# Altium schematic symbol library Components.SchLib: 12 symbols
Pins are listed as number, name and electrical type; pins without a type are passive.

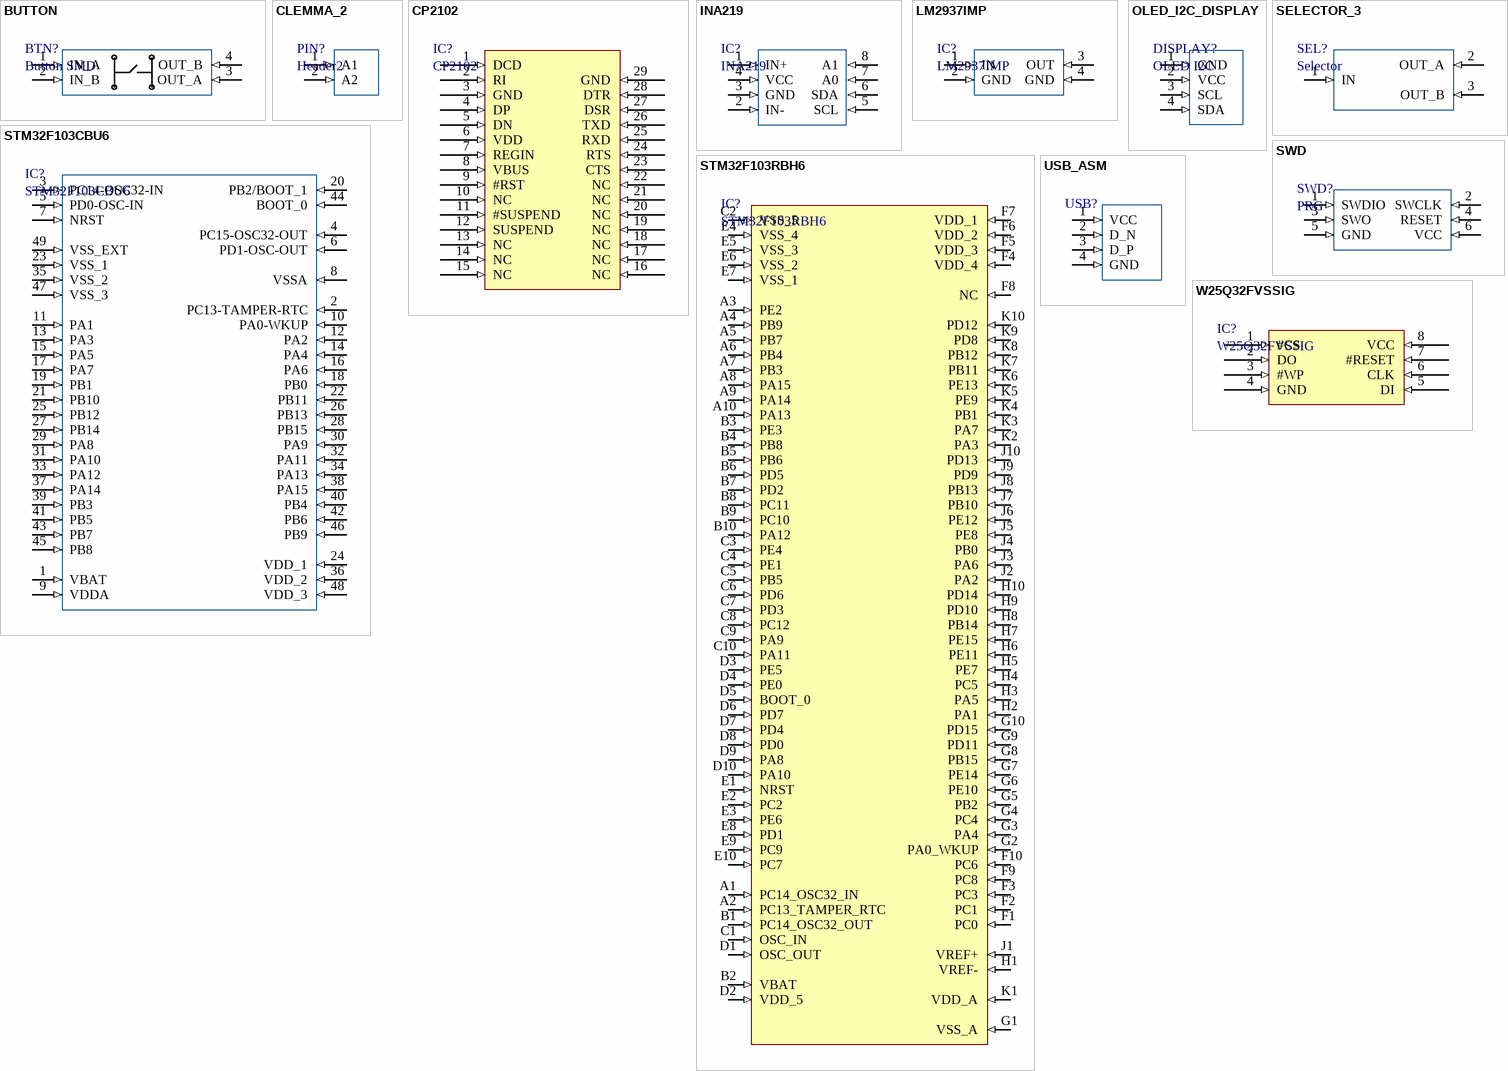
[diagram p0: symbols BUTTON to W25Q32FVSSIG]

## BUTTON
designator BTN?, comment Button SMD
Simple SMD button 4x4mm
footprint BUTTON_SMD (6x6mm 1.5mm h)
pins: 1 IN_A (in), 2 IN_B (in), 3 OUT_A (in), 4 OUT_B (in)

## CLEMMA_2
designator PIN?, comment Header2
5.0mm step, 2 pins, KLS2-102-5.00-02P-2S
footprint CLEMMA_2
pins: 1 A1 (in), 2 A2 (in)

## CP2102
designator IC?
Silabs CP2102
footprint QFN28
pins: 1 DCD (in), 2 RI (in), 3 GND (in), 4 DP (in), 5 DN (in), 6 VDD (in), 7 REGIN (in), 8 VBUS (in), 9 #RST (in), 10 NC (in), 11 #SUSPEND (in), 12 SUSPEND (in), 13 NC (in), 14 NC (in), 15 NC (in), 16 NC (in), 17 NC (in), 18 NC (in), 19 NC (in), 20 NC (in), 21 NC (in), 22 NC (in), 23 CTS (in), 24 RTS (in), 25 RXD (in), 26 TXD (in), 27 DSR (in), 28 DTR (in), 29 GND (in)

## INA219
designator IC?
INA219 Zerø-Drift, Bidirectional Current/Power Monitor With I / 2C Interface
footprint SOT23-INA219
pins: 1 IN+ (in), 2 IN- (in), 3 GND (in), 4 VCC (in), 5 SCL (in), 6 SDA (in), 7 A0 (in), 8 A1 (in)

## LM2937IMP
designator IC?
DC-DC 3.3V 0.5A
footprint SOT223
pins: 1 IN (in), 2 GND (in), 3 OUT (in), 4 GND (in)

## OLED_I2C_DISPLAY
designator DISPLAY?, comment OLED I2C
I2C Display module
footprint OLED_I2C_DISPLAY (OLED I2C)
pins: 1 GND (in), 2 VCC (in), 3 SCL (in), 4 SDA (in)

## SELECTOR_3
designator SEL?, comment Selector
Simple selector
footprint BGA100P9X9-81A
pins: 1 IN (in), 2 OUT_A (in), 3 OUT_B (in)

## STM32F103CBU6
designator IC?
STM32F103CBU6 in QFN package
footprint UFQFPN48
pins: 1 VBAT (in), 2 PC13-TAMPER-RTC (in), 3 PC14-OSC32-IN (in), 4 PC15-OSC32-OUT (in), 5 PD0-OSC-IN (in), 6 PD1-OSC-OUT (in), 7 NRST (in), 8 VSSA (in), 9 VDDA (in), 10 PA0-WKUP (in), 11 PA1 (in), 12 PA2 (in), 13 PA3 (in), 14 PA4 (in), 15 PA5 (in), 16 PA6 (in), 17 PA7 (in), 18 PB0 (in), 19 PB1 (in), 20 PB2/BOOT_1 (in), 21 PB10 (in), 22 PB11 (in), 23 VSS_1 (in), 24 VDD_1 (in), 25 PB12 (in), 26 PB13 (in), 27 PB14 (in), 28 PB15 (in), 29 PA8 (in), 30 PA9 (in), 31 PA10 (in), 32 PA11 (in), 33 PA12 (in), 34 PA13 (in), 35 VSS_2 (in), 36 VDD_2 (in), 37 PA14 (in), 38 PA15 (in), 39 PB3 (in), 40 PB4 (in), 41 PB5 (in), 42 PB6 (in), 43 PB7 (in), 44 BOOT_0 (in), 45 PB8 (in), 46 PB9 (in), 47 VSS_3 (in), 48 VDD_3 (in), 49 VSS_EXT (in)

## STM32F103RBH6
designator IC?
STM32F103RBH6 in BGA package
footprint BGA100C80P10X10_1000X1000X170 (BGA, 100-Leads, Body 10,00x10,00mmx1,70mm, Pitch 0,80mm)
pins: A1 PC14_OSC32_IN (in), A2 PC13_TAMPER_RTC (in), A3 PE2 (in), A4 PB9 (in), A5 PB7 (in), A6 PB4 (in), A7 PB3 (in), A8 PA15 (in), A9 PA14 (in), A10 PA13 (in), B1 PC14_OSC32_OUT (in), B2 VBAT (in), B3 PE3 (in), B4 PB8 (in), B5 PB6 (in), B6 PD5 (in), B7 PD2 (in), B8 PC11 (in), B9 PC10 (in), B10 PA12 (in), C1 OSC_IN (in), C2 VSS_5 (in), C3 PE4 (in), C4 PE1 (in), C5 PB5 (in), C6 PD6 (in), C7 PD3 (in), C8 PC12 (in), C9 PA9 (in), C10 PA11 (in), D1 OSC_OUT (in), D2 VDD_5 (in), D3 PE5 (in), D4 PE0 (in), D5 BOOT_0 (in), D6 PD7 (in), D7 PD4 (in), D8 PD0 (in), D9 PA8 (in), D10 PA10 (in), E1 NRST (in), E2 PC2 (in), E3 PE6 (in), E4 VSS_4 (in), E5 VSS_3 (in), E6 VSS_2 (in), E7 VSS_1 (in), E8 PD1 (in), E9 PC9 (in), E10 PC7 (in), F1 PC0 (in), F2 PC1 (in), F3 PC3 (in), F4 VDD_4 (in), F5 VDD_3 (in), F6 VDD_2 (in), F7 VDD_1 (in), F8 NC (in), F9 PC8 (in), F10 PC6 (in), G1 VSS_A (in), G2 PA0_WKUP (in), G3 PA4 (in), G4 PC4 (in), G5 PB2 (in), G6 PE10 (in), G7 PE14 (in), G8 PB15 (in), G9 PD11 (in), G10 PD15 (in), H1 VREF- (in), H2 PA1 (in), H3 PA5 (in), H4 PC5 (in), H5 PE7 (in), H6 PE11 (in), H7 PE15 (in), H8 PB14 (in), H9 PD10 (in), H10 PD14 (in), J1 VREF+ (in), J2 PA2 (in), J3 PA6 (in), J4 PB0 (in), J5 PE8 (in), J6 PE12 (in), J7 PB10 (in), J8 PB13 (in), J9 PD9 (in), J10 PD13 (in), K1 VDD_A (in), K2 PA3 (in), K3 PA7 (in), K4 PB1 (in), K5 PE9 (in), K6 PE13 (in), K7 PB11 (in), K8 PB12 (in), K9 PD8 (in), K10 PD12 (in)

## SWD
designator SWD?, comment PRG
SWD Pinout
footprint SWDIO (SWDIO Interface)
pins: 1 SWDIO (in), 2 SWCLK (in), 3 SWO (in), 4 RESET (in), 5 GND (in), 6 VCC (in)

## USB_ASM
designator USB?
USB port type ASM
footprint PCBComponent_1
pins: 1 VCC (in), 2 D_N (in), 3 D_P (in), 4 GND (in)

## W25Q32FVSSIG
designator IC?
SPI Flash 32Mbit (4MB)
footprint SOIC8_208mil
pins: 1 #CS (in), 2 DO (in), 3 #WP (in), 4 GND (in), 5 DI (in), 6 CLK (in), 7 #RESET (in), 8 VCC (in)